# Altium footprint library PowerInductorSpoel1.5µH.PcbLib: 1 footprints
Each footprint in its own frame and in the unit in brackets; x right, y up, seen from the top. Pads: shape width x height; smd on the part's side, far side on the other; paste and mask are expansions set on the pad; w line width, h text height; cw(c..) or ccw(c..) is an arc to the next point about the centre after c.
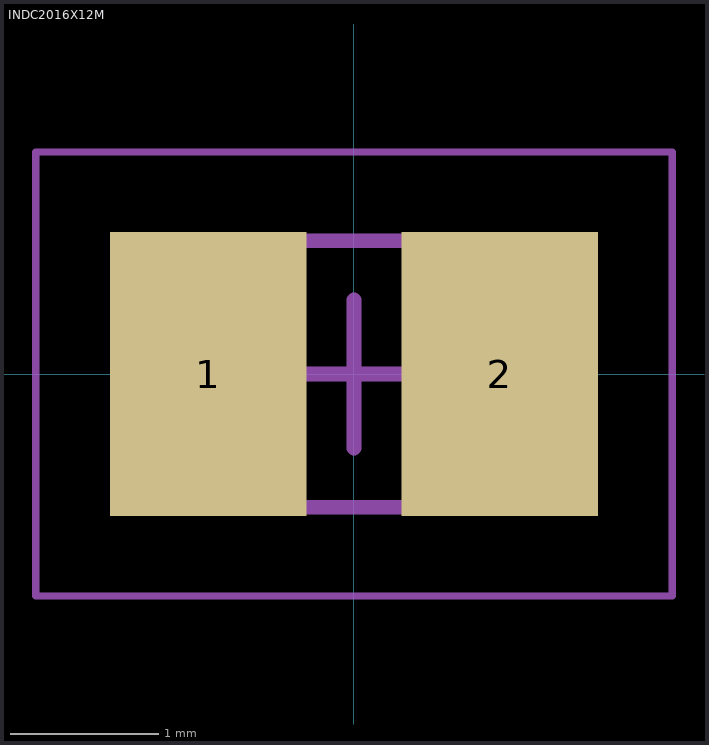
[diagram p0: the footprint, top view; thin cyan lines are the x and y axes]

## INDC2016X12M [mm] "Chip Inductor, 2-Leads, Body 2.00x1.60mm, IPC Low Density"
height 1.2
pads (2):
  rect 1.33x1.92 smd: 1(-0.985,0) 2(0.985,0)
Top Assembly:
  lines w0.1: -1.1,-0.9 1.1,-0.9 1.1,0.9 -1.1,0.9 -1.1,-0.9
Top Courtyard:
  lines w0.05: -2.15,-1.5 2.15,-1.5 2.15,1.5 -2.15,1.5 -2.15,-1.5
  lines w0.1: -0.5,0 0.5,0 ; 0,-0.5 0,0.5
3D body: height 1.2, standoff 0, extent 0.6,-0.9 1.1,0.9
3D body: height 1.2, standoff 0, extent -1.1,-0.9 -0.6,0.9
3D body: height 1.2, standoff 0, extent -0.6,-0.9 0.6,0.9